# EAGLE library part MCP4921-E/SN (library ATMEGA328PB-AN)
MCP4921-E/SN: 12 Bit DAC
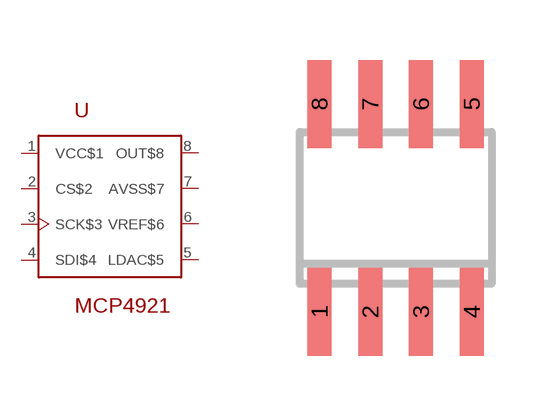
[diagram p5: symbol with the pads of SO8; footprint SO8]

Designator prefix -

## MCP4921-E/SN  [SO8]
1  VCC$1  pwr
2  CS$2
3  SCK$3
4  SDI$4
5  LDAC$5
6  VREF$6  in
7  AVSS$7  pwr
8  OUT$8  out

## Footprint SO8 (pad centres in mm)
SMALL OUTLINE INTEGRATED CIRCUIT
smd 0.6 x 2.2: 1 -1.905,-2.6; 2 -0.635,-2.6; 3 0.635,-2.6; 4 1.905,-2.6; 5 1.905,2.6; 6 0.635,2.6; 7 -0.635,2.6; 8 -1.905,2.6